# Altium footprint library R45_Driver.PcbLib: 33 footprints (part 1 of 3)
Each footprint in its own frame and in the unit in brackets; x right, y up, seen from the top. Pads: shape width x height; smd on the part's side, far side on the other; paste and mask are expansions set on the pad; w line width, h text height; cw(c..) or ccw(c..) is an arc to the next point about the centre after c.
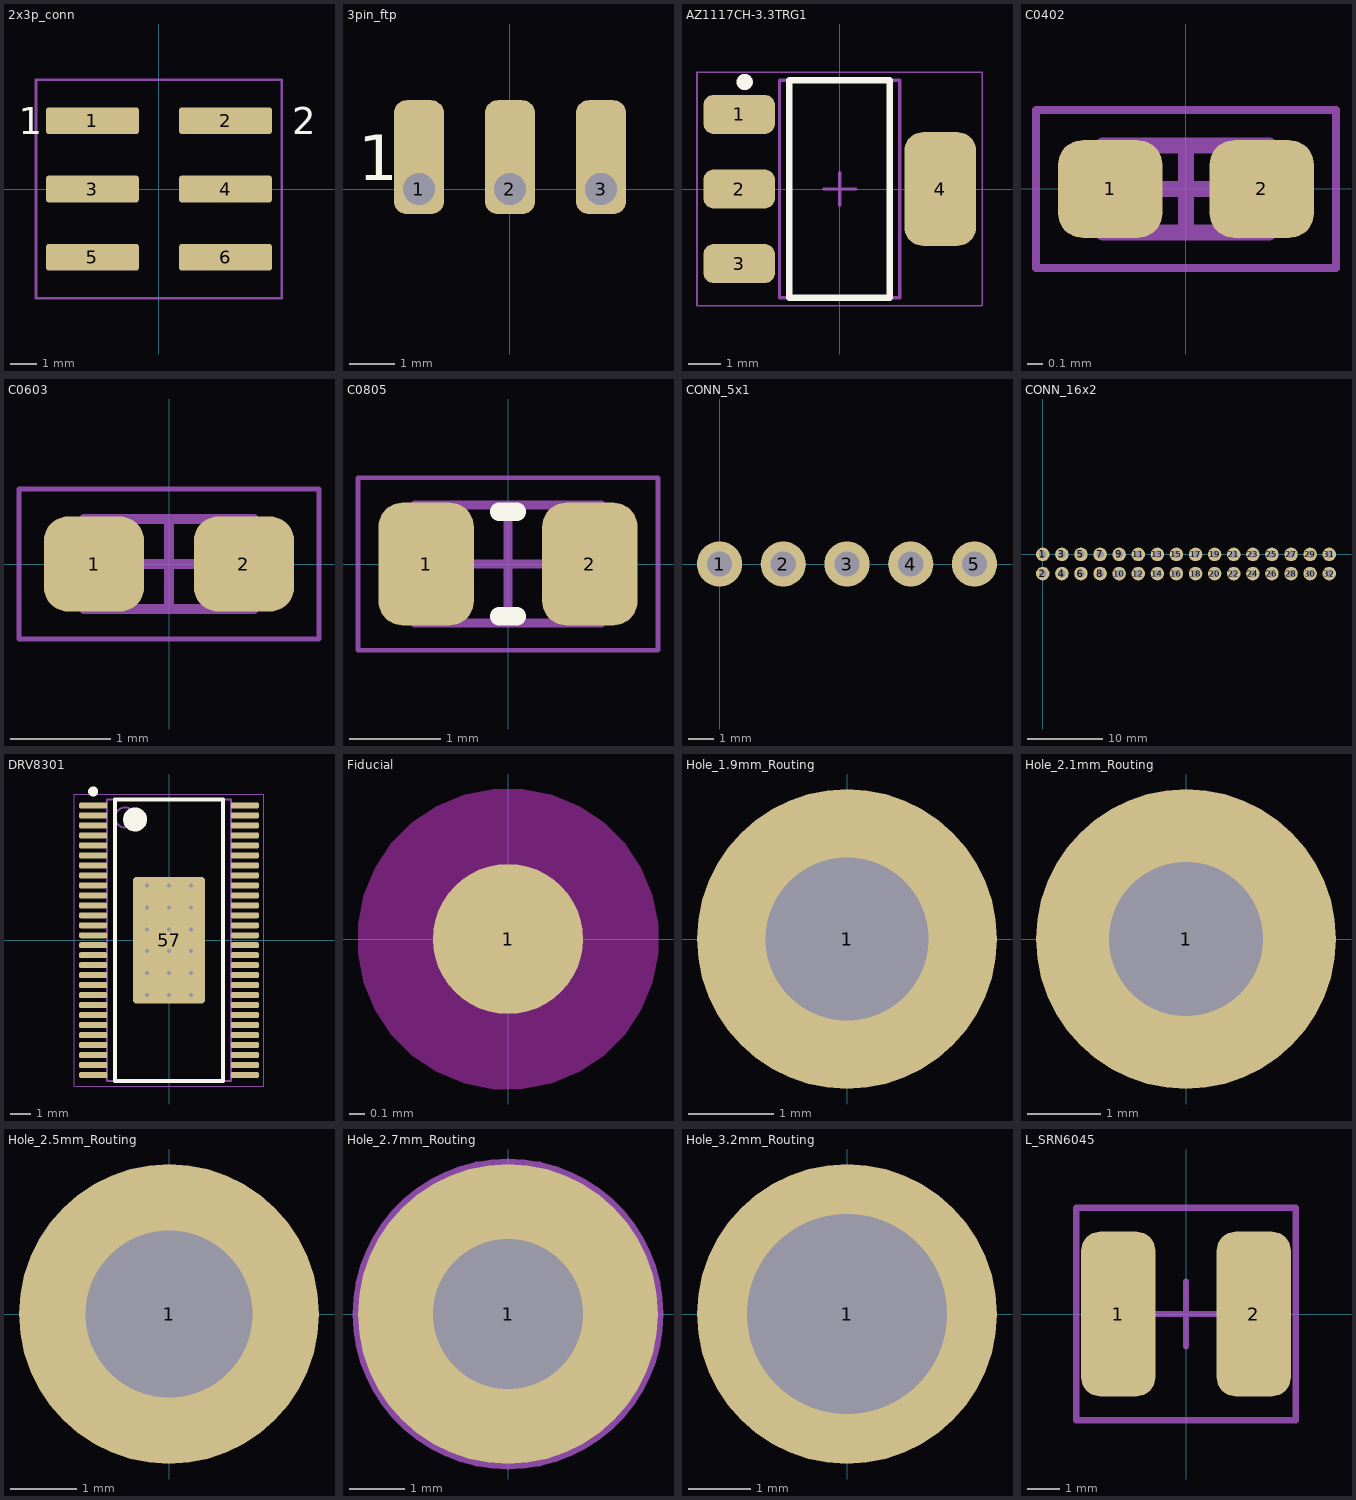
[diagram p0: the footprints below, top view; thin cyan lines are the x and y axes]

## 2x3p_conn [mm]
pads (6):
  rrect20% 3.45x1 smd: 1(-2.475,2.54) 2(2.475,2.54) 3(-2.475,0) 4(2.475,0) 5(-2.475,-2.54) 6(2.475,-2.54)
Top Overlay:
  text "2" at 4.953,2.032 h1
  text "1" at -5.207,2.032 h1
Mechanical 15:
  lines w0.1: -4.572,-4.064 4.572,-4.064 4.572,4.064 -4.572,4.064 -4.572,-4.064
3D body "Header - SMD - Vertical - Dual Row - 6.stp": height 9.7, standoff 0, extent -3.734,-3.81 3.81,3.81

## 3pin_ftp [mm]
pads (3):
  rrect50% 1.1x2.5 hole 0.7 copper offset 0,0.7: 1(-2,0) 2(0,0) 3(2,0)
Top Overlay:
  text "1" at -3.337,0.196 h1
Bottom Overlay:
  text "1" at -3.163,0.204 h1

## AZ1117CH-3.3TRG1 [mm] "SOT223, 4-Leads, Body 6.51x7.00mm (avg), Pitch 2.30mm, IPC Medium Density"
height 1.8
pads (4):
  rrect50% 2.2x1.2 smd: 1(-3.1,2.3) 2(-3.1,0) 3(-3.1,-2.3)
  rrect50% 2.2x3.5 smd: 4(3.1,0)
Top Overlay:
  circle w0.25: c-2.93,3.3 r0.125
  lines w0.2: -1.55,-3.35 1.55,-3.35 1.55,3.35 -1.55,3.35 -1.55,-3.35
Mechanical 10:
  lines w0.05: -4.4,-3.6 4.4,-3.6 4.4,3.6 -4.4,3.6 -4.4,-3.6
  lines w0.1: -0.5,0 0.5,0 ; 0,-0.5 0,0.5
Mechanical 14:
  lines w0.1: -1.855,-3.355 1.855,-3.355 1.855,3.355 -1.855,3.355 -1.855,-3.355
3D body "SOT230P700X180-4N.step": height 1.8, standoff 0, extent -3.5,-3.355 3.5,3.355

## C0402 [mm] "Chip Capacitor, 2-Leads, Body 1.00x0.50mm, IPC Medium Density"
height 0.55
pads (2):
  rrect50% 0.66x0.62 smd mask+0.05: 1(-0.48,0) 2(0.48,0)
Mechanical 13:
  lines w0.1: -0.525,-0.275 0.525,-0.275 0.525,0.275 -0.525,0.275 -0.525,-0.275
Mechanical 15:
  lines w0.05: -0.95,-0.5 0.95,-0.5 0.95,0.5 -0.95,0.5 -0.95,-0.5
  lines w0.1: -0.275,0 0.275,0 ; 0,-0.275 0,0.275
3D body "CAPC1005X06N.step": height 0.55, standoff 0, extent -0.525,-0.275 0.525,0.275

## C0603 [mm] "Chip Capacitor, 2-Leads, Body 1.60x0.80mm, IPC Medium Density"
height 0.9
pads (2):
  rrect50% 1x0.95 smd: 1(-0.75,0) 2(0.75,0)
Mechanical 13:
  lines w0.1: -0.85,-0.45 0.85,-0.45 0.85,0.45 -0.85,0.45 -0.85,-0.45
Mechanical 15:
  lines w0.05: -1.5,-0.75 1.5,-0.75 1.5,0.75 -1.5,0.75 -1.5,-0.75
  lines w0.1: -0.45,0 0.45,0 ; 0,-0.45 0,0.45
3D body "CAPC1608X09N.step": height 0.9, standoff 0, extent -0.85,-0.45 0.85,0.45

## C0805 [mm] "Chip Capacitor, 2-Leads, Body 2.00x1.25mm, IPC Medium Density"
height 0.6
pads (2):
  rrect50% 1.05x1.35 smd: 1(-0.9,0) 2(0.9,0)
Top Overlay:
  lines w0.2: -0.1,-0.575 0.1,-0.575 ; -0.1,0.575 0.1,0.575
Mechanical 13:
  lines w0.1: -1.025,-0.65 1.025,-0.65 1.025,0.65 -1.025,0.65 -1.025,-0.65
Mechanical 15:
  lines w0.05: -1.65,-0.95 1.65,-0.95 1.65,0.95 -1.65,0.95 -1.65,-0.95
  lines w0.1: -0.5,0 0.5,0 ; 0,-0.5 0,0.5
3D body "CAPC2012X06N.step": height 0.6, standoff 0, extent -1.025,-0.65 1.025,0.65

## CONN_5x1 [mm]
pads (5):
  round 1.8 hole 1: 1(0,0) 2(2.54,0) 3(5.08,0) 4(7.62,0) 5(10.16,0)

## CONN_16x2 [mm]
pads (32):
  round 1.8 hole 1: 1(0,0) 2(0,-2.54) 3(2.54,0) 4(2.54,-2.54) 5(5.08,0) 6(5.08,-2.54) 7(7.62,0) 8(7.62,-2.54) 9(10.16,0) 10(10.16,-2.54) 11(12.7,0) 12(12.7,-2.54) 13(15.24,0) 14(15.24,-2.54) 15(17.78,0) 16(17.78,-2.54) 17(20.32,0) 18(20.32,-2.54) 19(22.86,0) 20(22.86,-2.54) 21(25.4,0) 22(25.4,-2.54) 23(27.94,0) 24(27.94,-2.54) 25(30.48,0) 26(30.48,-2.54) 27(33.02,0) 28(33.02,-2.54) 29(35.56,0) 30(35.56,-2.54) 31(38.1,0) 32(38.1,-2.54)
3D body "TSW-116-07-G-D.stp": height 8.38, standoff -2.54, extent -1.27,-3.81 39.37,1.27

## DRV8301 [mm] "TSSOP, 56-Leads, Body 14.00x6.10mm, Pitch 0.50mm, Thermal Pad 6.35x3.61mm, IPC Medium Density"
height 1.2
pads (57):
  rrect50% 1.4x0.3 smd: 1(-3.8,6.75) 2(-3.8,6.25) 3(-3.8,5.75) 4(-3.8,5.25) 5(-3.8,4.75) 6(-3.8,4.25) 7(-3.8,3.75) 8(-3.8,3.25) 9(-3.8,2.75) 10(-3.8,2.25) 11(-3.8,1.75) 12(-3.8,1.25) 13(-3.8,0.75) 14(-3.8,0.25) 15(-3.8,-0.25) 16(-3.8,-0.75) 17(-3.8,-1.25) 18(-3.8,-1.75) 19(-3.8,-2.25) 20(-3.8,-2.75) 21(-3.8,-3.25) 22(-3.8,-3.75) 23(-3.8,-4.25) 24(-3.8,-4.75) 25(-3.8,-5.25) 26(-3.8,-5.75) 27(-3.8,-6.25) 28(-3.8,-6.75) 29(3.8,-6.75) 30(3.8,-6.25) 31(3.8,-5.75) 32(3.8,-5.25) 33(3.8,-4.75) 34(3.8,-4.25) 35(3.8,-3.75) 36(3.8,-3.25) 37(3.8,-2.75) 38(3.8,-2.25) 39(3.8,-1.75) 40(3.8,-1.25) 41(3.8,-0.75) 42(3.8,-0.25) 43(3.8,0.25) 44(3.8,0.75) 45(3.8,1.25) 46(3.8,1.75) 47(3.8,2.25) 48(3.8,2.75) 49(3.8,3.25) 50(3.8,3.75) 51(3.8,4.25) 52(3.8,4.75) 53(3.8,5.25) 54(3.8,5.75) 55(3.8,6.25) 56(3.8,6.75)
  rrect10% 3.61x6.35 smd: 57(0,0)
via 1.1,-2.75 diameter 0.5 hole 0.2
via 0,-2.75 diameter 0.5 hole 0.2
via -1.1,-2.75 diameter 0.5 hole 0.2
via 1.1,-1.65 diameter 0.5 hole 0.2
via 0,-1.65 diameter 0.5 hole 0.2
via -1.1,-1.65 diameter 0.5 hole 0.2
via 1.1,-0.55 diameter 0.5 hole 0.2
via 0,-0.55 diameter 0.5 hole 0.2
via -1.1,-0.55 diameter 0.5 hole 0.2
via 1.1,0.55 diameter 0.5 hole 0.2
via 0,0.55 diameter 0.5 hole 0.2
via -1.1,0.55 diameter 0.5 hole 0.2
via 1.1,1.65 diameter 0.5 hole 0.2
via 0,1.65 diameter 0.5 hole 0.2
via -1.1,1.65 diameter 0.5 hole 0.2
via 1.1,2.75 diameter 0.5 hole 0.2
via 0,2.75 diameter 0.5 hole 0.2
via -1.1,2.75 diameter 0.5 hole 0.2
Top Overlay:
  circle w0.6: c-1.7,6.05 r0.3
  circle w0.25: c-3.8,7.45 r0.125
  lines w0.2: -2.7,-7.05 2.7,-7.05 2.7,7.05 -2.7,7.05 -2.7,-7.05
Mechanical 13:
  circle w0.1: c-2.2,6.15 r0.5
  lines w0.1: -3.1,-7.05 3.1,-7.05 3.1,7.05 -3.1,7.05 -3.1,-7.05
Mechanical 15:
  lines w0.05: -4.75,-7.3 4.75,-7.3 4.75,7.3 -4.75,7.3 -4.75,-7.3
  lines w0.1: -0.5,0 0.5,0 ; 0,-0.5 0,0.5
3D body "TSSOP50P810X120_HS-57N.step": height 1.2, standoff 0, extent -4.05,-7.05 4.05,7.05

## Fiducial [mm]
pads (1):
  round 1 smd paste-1: 1(0,0)
Top Layer keep-out:
  region: -1,0 -1,0.098 -0.962,0.292 -0.886,0.474 -0.777,0.637 -0.637,0.777 -0.474,0.886 -0.292,0.962 -0.098,1 0,1 0.098,1 0.292,0.962 0.474,0.886 0.637,0.777 0.777,0.637 0.886,0.474 0.962,0.292 1,0.098 1,0 1,-0.098 0.962,-0.292 0.886,-0.474 0.777,-0.637 0.637,-0.777 0.474,-0.886 0.292,-0.962 0.098,-1 0,-1 -0.098,-1 -0.292,-0.962 -0.474,-0.886 -0.637,-0.777 -0.777,-0.637 -0.886,-0.474 -0.962,-0.292 -1,-0.098
Top Solder:
  region: -1,0 -1,0.098 -0.962,0.292 -0.886,0.474 -0.777,0.637 -0.637,0.777 -0.474,0.886 -0.292,0.962 -0.098,1 0,1 0.098,1 0.292,0.962 0.474,0.886 0.637,0.777 0.777,0.637 0.886,0.474 0.962,0.292 1,0.098 1,0 1,-0.098 0.962,-0.292 0.886,-0.474 0.777,-0.637 0.637,-0.777 0.474,-0.886 0.292,-0.962 0.098,-1 0,-1 -0.098,-1 -0.292,-0.962 -0.474,-0.886 -0.637,-0.777 -0.777,-0.637 -0.886,-0.474 -0.962,-0.292 -1,-0.098

## Hole_1.9mm_Routing [mm]
pads (1):
  round 3.5 hole 1.9 paste-2539.97: 1(0,0)

## Hole_2.1mm_Routing [mm]
pads (1):
  round 4.1 hole 2.1 paste-2539.97: 1(0,0)
Top Solder:
  pour cut-out: 0,-0.8 -0.079,-0.8 -0.233,-0.769 -0.379,-0.709 -0.51,-0.621 -0.621,-0.51 -0.709,-0.379 -0.769,-0.233 -0.8,-0.079 -0.8,0 -0.8,0.079 -0.769,0.233 -0.709,0.379 -0.621,0.51 -0.51,0.621 -0.379,0.709 -0.233,0.769 -0.079,0.8 0,0.8 0.079,0.8 0.233,0.769 0.379,0.709 0.51,0.621 0.621,0.51 0.709,0.379 0.769,0.233 0.8,0.079 0.8,0 0.8,-0.079 0.769,-0.233 0.709,-0.379 0.621,-0.51 0.51,-0.621 0.379,-0.709 0.233,-0.769 0.079,-0.8
Mechanical 15:
  circle w0.2: c0,0 r0.8
3D body: height 0.01, standoff -0.01, extent -0.01,-0.01 0.01,0.01

## Hole_2.5mm_Routing [mm]
pads (1):
  round 4.5 hole 2.5 paste-2539.97: 1(0,0)
Top Solder:
  pour cut-out: 0,-0.8 -0.079,-0.8 -0.233,-0.769 -0.379,-0.709 -0.51,-0.621 -0.621,-0.51 -0.709,-0.379 -0.769,-0.233 -0.8,-0.079 -0.8,0 -0.8,0.079 -0.769,0.233 -0.709,0.379 -0.621,0.51 -0.51,0.621 -0.379,0.709 -0.233,0.769 -0.079,0.8 0,0.8 0.079,0.8 0.233,0.769 0.379,0.709 0.51,0.621 0.621,0.51 0.709,0.379 0.769,0.233 0.8,0.079 0.8,0 0.8,-0.079 0.769,-0.233 0.709,-0.379 0.621,-0.51 0.51,-0.621 0.379,-0.709 0.233,-0.769 0.079,-0.8
Mechanical 15:
  circle w0.2: c0,0 r0.8
3D body: height 0.01, standoff -0.01, extent -0.01,-0.01 0.01,0.01

## Hole_2.7mm_Routing [mm]
pads (1):
  round 5.4 hole 2.7: 1(0,0)
Mechanical 15:
  circle w0.2: c0,0 r2.7

## Hole_3.2mm_Routing [mm]
pads (1):
  round 4.8 hole 3.2 paste-2539.97: 1(0,0)

## L_SRN6045 [mm]
pads (2):
  rrect50% 2.3x5.1 smd: 1(-2.1,0) 2(2.1,0)
Mechanical 15:
  lines w0.2: -1,0 0,0 ; 0,-1 0,0 ; 0,1 0,0 ; 1,0 0,0 ; -3.4,-3.3 -3.4,3.3 ; -3.4,-3.3 3.4,-3.3 ; -3.4,-3.3 -3.4,3.3 ; -3.4,-3.3 3.4,-3.3 ; -3.4,3.3 3.4,3.3 ; -3.4,3.3 3.4,3.3 ; 3.4,-3.3 3.4,3.3 ; 3.4,-3.3 3.4,3.3
3D body "SRN6045.step": height 4.47, standoff -0.03, extent -3.15,-3 3.15,3